# Altium footprint library Pcbforslave.PcbLib: 13 footprints
Each footprint in its own frame and in the unit in brackets; x right, y up, seen from the top. Pads: shape width x height; smd on the part's side, far side on the other; paste and mask are expansions set on the pad; w line width, h text height; cw(c..) or ccw(c..) is an arc to the next point about the centre after c.
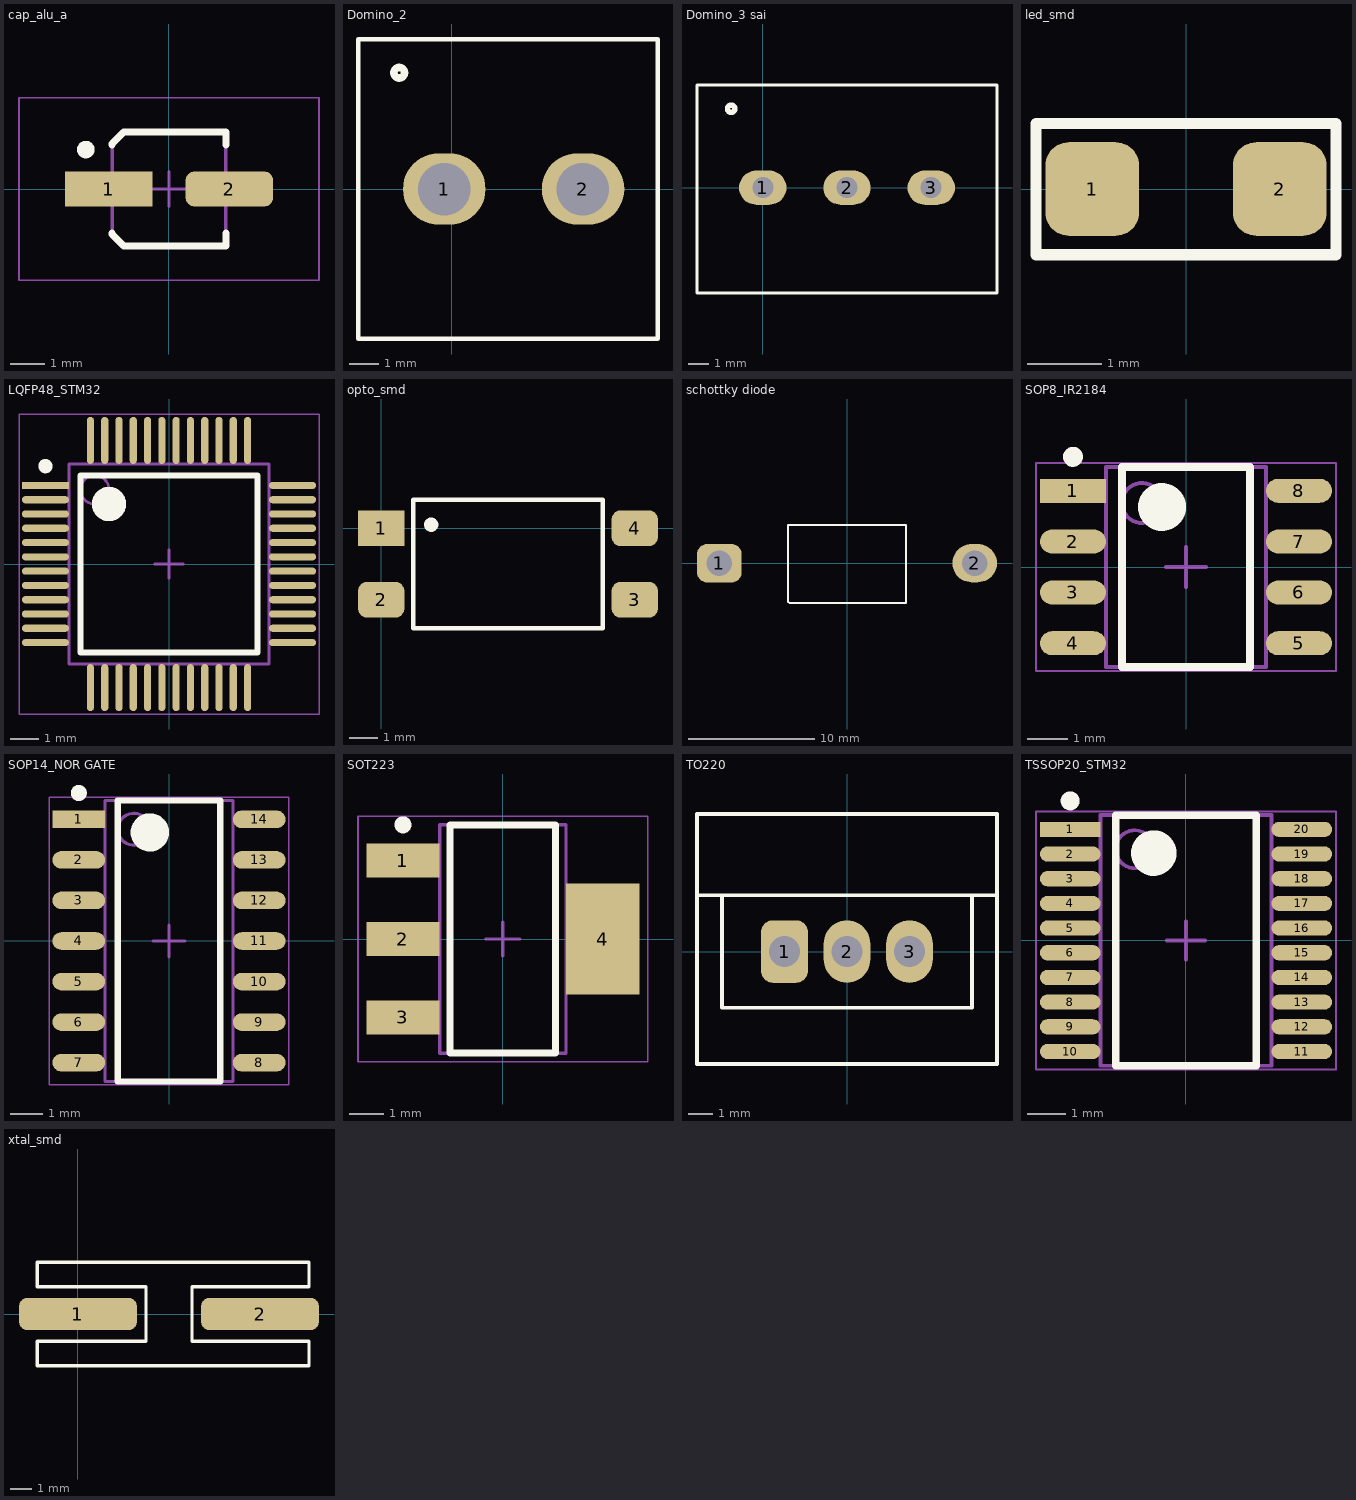
[diagram p0: the footprints below, top view; thin cyan lines are the x and y axes]

## cap_alu_a [mm] "Aluminum Electrolytic Capacitor, Body 3.30x3.30x29.00mm, IPC Low Density"
height 29
pads (2):
  rect 2.54x1.016 smd: 1(-1.75,0)
  rrect50% 2.54x1.016 smd: 2(1.75,0)
Top Overlay:
  circle w0.254: c-2.413,1.143 r0.127
  lines w0.2: -1.65,-1.275 -1.65,-1.313 -1.312,-1.65 1.65,-1.65 1.65,-1.275 ; -1.65,1.275 -1.65,1.312 -1.312,1.65 1.65,1.65 1.65,1.275
Mechanical 13:
  lines w0.1: -1.65,-1.313 -1.312,-1.65 1.65,-1.65 1.65,1.65 -1.312,1.65 -1.65,1.312 -1.65,-1.313
Mechanical 15:
  lines w0.05: -4.35,-2.65 -4.35,2.65 4.35,2.65 4.35,-2.65 -4.35,-2.65
  lines w0.1: -0.5,0 0.5,0 ; 0,-0.5 0,0.5
3D body: height 9.67, standoff 0, extent -1.65,-1.65 1.65,1.65
3D body: height 29, standoff 0, extent -1.5,-1.5 1.488,1.494

## Domino_2 [mil]
height 590
pads (2):
  oval 110x95 hole 70: 1(-10,0) 2(175,0)
Top Overlay:
  circle w10: c-70,155 r7.07
  lines w6: -125,-200 275,-200 275,200 -125,200 -125,0 -125,-200

## Domino_3 sai [mil]
height 590
pads (3):
  oval 90x65 hole 40: 1(0,0) 2(160,0) 3(320,0)
Top Overlay:
  circle w10: c-60,150 r7.07
  lines w6: -125,-200 445,-200 445,195 -125,195 -125,5 -125,-200

## led_smd [mm]
pads (2):
  rrect50% 1.27x1.27 smd: 1(-1.27,0) 2(1.27,0)
Top Overlay:
  lines w0.152: -2.032,-0.889 2.032,-0.889 2.032,0.889 -2.032,0.889 -2.032,0.635 -2.032,-0.889

## LQFP48_STM32 [mm] "TSQFP, 48-Leads, Body 7.00x7.00mm, Pitch 0.50mm, IPC High Density"
height 1.6
pads (48):
  rect 1.65x0.25 smd: 1(-4.325,2.75)
  oval 1.65x0.25 smd: 2(-4.325,2.25) 3(-4.325,1.75) 4(-4.325,1.25) 5(-4.325,0.75) 6(-4.325,0.25) 7(-4.325,-0.25) 8(-4.325,-0.75) 9(-4.325,-1.25) 10(-4.325,-1.75) 11(-4.325,-2.25) 12(-4.325,-2.75) 25(4.325,-2.75) 26(4.325,-2.25) 27(4.325,-1.75) 28(4.325,-1.25) 29(4.325,-0.75) 30(4.325,-0.25) 31(4.325,0.25) 32(4.325,0.75) 33(4.325,1.25) 34(4.325,1.75) 35(4.325,2.25) 36(4.325,2.75)
  oval 0.25x1.65 smd: 13(-2.75,-4.325) 14(-2.25,-4.325) 15(-1.75,-4.325) 16(-1.25,-4.325) 17(-0.75,-4.325) 18(-0.25,-4.325) 19(0.25,-4.325) 20(0.75,-4.325) 21(1.25,-4.325) 22(1.75,-4.325) 23(2.25,-4.325) 24(2.75,-4.325) 37(2.75,4.325) 38(2.25,4.325) 39(1.75,4.325) 40(1.25,4.325) 41(0.75,4.325) 42(0.25,4.325) 43(-0.25,4.325) 44(-0.75,4.325) 45(-1.25,4.325) 46(-1.75,4.325) 47(-2.25,4.325) 48(-2.75,4.325)
Top Overlay:
  circle w0.6: c-2.1,2.1 r0.3
  circle w0.25: c-4.325,3.425 r0.125
  lines w0.2: -3.1,-3.1 3.1,-3.1 3.1,3.1 -3.1,3.1 -3.1,-3.1
Mechanical 13:
  circle w0.1: c-2.6,2.6 r0.5
  lines w0.1: -3.5,-3.5 3.5,-3.5 3.5,3.5 -3.5,3.5 -3.5,-3.5
Mechanical 15:
  lines w0.05: -5.25,-5.25 5.25,-5.25 5.25,5.25 -5.25,5.25 -5.25,-5.25
  lines w0.1: -0.5,0 0.5,0 ; 0,-0.5 0,0.5
3D body: height 1.6, standoff 0.15, extent -3.5,-3.5 3.5,3.5

## opto_smd [mil]
height 137
pads (4):
  rect 65x50 smd: 1(0,0)
  rrect50% 65x50 smd: 2(0,-100) 3(355,-100) 4(355,0)
Top Overlay:
  circle w10: c70,5 r5
  lines w6: 310,-135 310,-50 310,40 45,40 45,-140 310,-140 310,-125

## schottky diode [mil]
pads (2):
  rrect50% 140x120 hole 80: 1(-400,0)
  oval 140x120 hole 80: 2(400,0)
Top Overlay:
  lines w6: -185,-120 -180,-125 185,-125 185,120 -185,120 -185,0 -185,-120

## SOP8_IR2184 [mm]
height 1.75
pads (8):
  rect 1.65x0.6 smd: 1(-2.825,1.905)
  oval 1.65x0.6 smd: 2(-2.825,0.635) 3(-2.825,-0.635) 4(-2.825,-1.905) 5(2.825,-1.905) 6(2.825,-0.635) 7(2.825,0.635) 8(2.825,1.905)
Top Overlay:
  circle w0.6: c-0.6,1.5 r0.3
  circle w0.25: c-2.825,2.755 r0.125
  lines w0.2: -1.6,-2.5 1.6,-2.5 1.6,2.5 -1.6,2.5 -1.6,-2.5
Mechanical 13:
  circle w0.1: c-1.1,1.6 r0.5
  lines w0.1: -2,-2.5 2,-2.5 2,2.5 -2,2.5 -2,-2.5
Mechanical 15:
  lines w0.05: -3.75,-2.6 3.75,-2.6 3.75,2.6 -3.75,2.6 -3.75,-2.6
  lines w0.1: -0.5,0 0.5,0 ; 0,-0.5 0,0.5
3D body: height 1.75, standoff 0.25, extent -2,-2.5 2,2.5

## SOP14_NOR GATE [mm] "SOIC, 14-Leads, Body 8.65x3.90mm, Pitch 1.27mm, IPC High Density"
height 1.75
pads (14):
  rect 1.65x0.55 smd: 1(-2.825,3.81)
  oval 1.65x0.55 smd: 2(-2.825,2.54) 3(-2.825,1.27) 4(-2.825,0) 5(-2.825,-1.27) 6(-2.825,-2.54) 7(-2.825,-3.81) 8(2.825,-3.81) 9(2.825,-2.54) 10(2.825,-1.27) 11(2.825,0) 12(2.825,1.27) 13(2.825,2.54) 14(2.825,3.81)
Top Overlay:
  circle w0.6: c-0.6,3.4 r0.3
  circle w0.25: c-2.825,4.635 r0.125
  lines w0.2: -1.6,-4.4 1.6,-4.4 1.6,4.4 -1.6,4.4 -1.6,-4.4
Mechanical 13:
  circle w0.1: c-1.1,3.5 r0.5
  lines w0.1: -2,-4.4 2,-4.4 2,4.4 -2,4.4 -2,-4.4
Mechanical 15:
  lines w0.05: -3.75,-4.5 3.75,-4.5 3.75,4.5 -3.75,4.5 -3.75,-4.5
  lines w0.1: -0.5,0 0.5,0 ; 0,-0.5 0,0.5
3D body: height 1.75, standoff 0.25, extent -2,-4.4 2,4.4

## SOT223 [mm] "SOT223, 4-Leads, Body 6.50x7.00mm (avg), Pitch 2.30mm, IPC Medium Density"
height 1.8
pads (4):
  rect 2.15x1 smd: 1(-2.93,2.3) 2(-2.93,0) 3(-2.93,-2.3)
  rect 2.15x3.25 smd: 4(2.93,0)
Top Overlay:
  circle w0.25: c-2.93,3.35 r0.125
  lines w0.2: -1.55,-3.35 -1.55,3.35 1.55,3.35 1.55,-3.35 -1.55,-3.35
Mechanical 13:
  lines w0.1: -1.855,-3.355 -1.855,3.355 1.855,3.355 1.855,-3.355 -1.855,-3.355
Mechanical 15:
  lines w0.05: -4.25,-3.6 -4.25,3.6 4.25,3.6 4.25,-3.6 -4.25,-3.6
  lines w0.1: -0.5,0 0.5,0 ; 0,-0.5 0,0.5
3D body: height 1.8, standoff 0.02, extent -1.855,-3.355 1.855,3.355

## TO220 [mm]
height 30.48
pads (3):
  rrect50% 1.905x2.54 hole 1.27: 1(-2.54,0)
  oval 1.905x2.54 hole 1.27: 2(0,0) 3(2.54,0)
Top Overlay:
  lines w0.152: 6.096,2.413 6.096,-4.572 -6.096,-4.572 -6.096,2.286 ; -6.096,2.286 -5.08,2.286 ; -6.096,2.286 -6.096,5.588 6.096,5.588 6.096,2.286 5.08,2.286 ; -5.08,2.286 5.08,2.286 ; -5.08,2.286 -5.08,0 -5.08,-2.286 5.08,-2.286 5.08,2.286

## TSSOP20_STM32 [mm]
height 1.2
pads (20):
  rect 1.6x0.4 smd: 1(-3.05,2.925)
  oval 1.6x0.4 smd: 2(-3.05,2.275) 3(-3.05,1.625) 4(-3.05,0.975) 5(-3.05,0.325) 6(-3.05,-0.325) 7(-3.05,-0.975) 8(-3.05,-1.625) 9(-3.05,-2.275) 10(-3.05,-2.925) 11(3.05,-2.925) 12(3.05,-2.275) 13(3.05,-1.625) 14(3.05,-0.975) 15(3.05,-0.325) 16(3.05,0.325) 17(3.05,0.975) 18(3.05,1.625) 19(3.05,2.275) 20(3.05,2.925)
Top Overlay:
  circle w0.25: c-3.05,3.675 r0.125
  circle w0.6: c-0.85,2.3 r0.3
  lines w0.2: -1.85,-3.3 -1.85,3.3 1.85,3.3 1.85,-3.3 -1.85,-3.3
Mechanical 13:
  circle w0.1: c-1.35,2.4 r0.5
  lines w0.1: -2.25,-3.3 -2.25,3.3 2.25,3.3 2.25,-3.3 -2.25,-3.3
Mechanical 15:
  lines w0.05: -3.95,-3.4 -3.95,3.4 3.95,3.4 3.95,-3.4 -3.95,-3.4
  lines w0.1: -0.5,0 0.5,0 ; 0,-0.5 0,0.5
3D body: height 1.2, standoff 0.15, extent -2.25,-3.3 2.25,3.3

## xtal_smd [mil]
height 167
pads (2):
  rrect50% 217x59 smd: 1(0,0) 2(335,0)
Top Overlay:
  lines w6: -75,-95 425,-95 425,-50 210,-50 210,50 425,50 425,95 -75,95 -75,50 125,50 125,-50 -75,-50 -75,-95